# Altium integrated library DEV-12587.IntLib: 1 symbol
Pins are listed as number, name and electrical type; pins without a type are passive.

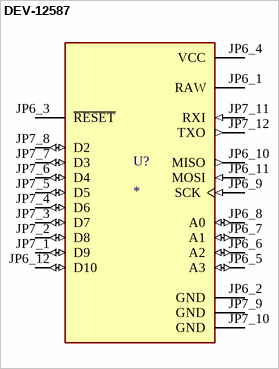
[diagram p0: symbol DEV-12587]

## DEV-12587
designator U?
ATmega32U4 Pro Micro AVRÂ® ATmega AVR MCU 8-Bit Embedded Evaluation Board; MF: SparkFun Electronics; MP: DEV-12587; SnapEDA_Link: https://www.snapeda.com/parts/DEV-12587/SparkFun+Electronics/view-part/?ref=snap; Package: None; Value: *; Check_prices: https://www.snapeda.com/parts/DEV-12587/SparkFun+Electronics/view-part/?ref=eda
footprint MODULE_DEV-12587
pins: JP6_1 RAW (power), JP6_2 GND (power), JP6_3 ~{RESET}, JP6_4 VCC (power), JP6_5 A3 (io), JP6_6 A2 (io), JP6_7 A1 (io), JP6_8 A0 (io), JP6_9 SCK (in), JP6_10 MISO (out), JP6_11 MOSI (in), JP6_12 D10 (io), JP7_1 D9 (io), JP7_2 D8 (io), JP7_3 D7 (io), JP7_4 D6 (io), JP7_5 D5 (io), JP7_6 D4 (io), JP7_7 D3 (io), JP7_8 D2 (io), JP7_9 GND (power), JP7_10 GND (power), JP7_11 RXI (in), JP7_12 TXO (out)